# Altium integrated library Diodes$.IntLib: 17 symbols
Pins are listed as number, name and electrical type; pins without a type are passive.

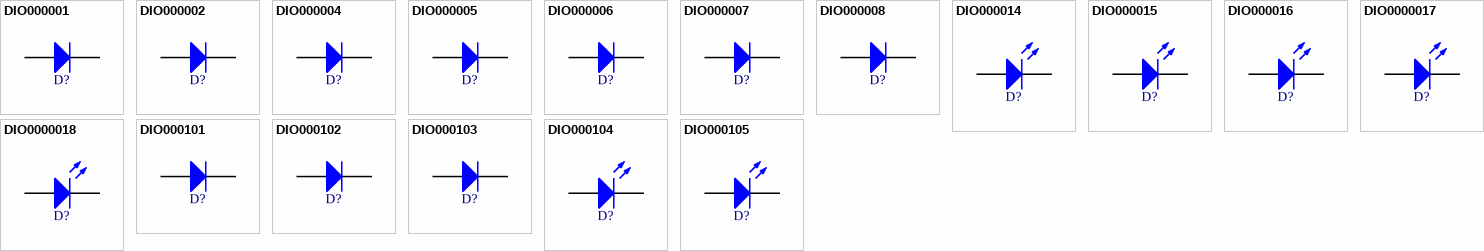
[diagram p0: symbols DIO000001 to DIO000105]

## DIO000001
designator D?, comment SR304  (value not drawn)
Schottky Diode 3A 40V TH; Manufactuer: TAIWAN SEMICONDUCTOR; UoA Stock#: DIO000001; Assembly Method: Through hole; Voltage/Current: 3A-40V; Item Type: Item; Path: ece/ts/Lists/Stock Inventory; Value: SR304; Size/Package: DO201(Axial); Manufacturer-PN: SR304; Datasheet Link: http://share.engineering.auckland.ac.nz/ece/ts/Student%20Documents/SR304.pdf; Supplier1: Element14; Supplier1-PN: 7278403; Category: Diode; Status: Active
footprint ECE-DIO18.84-9.6x5.6TH
pins: 1 A, 2 K

## DIO000002
designator D?, comment 1N4001  (value not drawn)
General Purpose Rectifier 1A 50V TH; Manufactuer: MULTICOMP; UoA Stock#: DIO000002; Assembly Method: Through hole; Voltage/Current: 1A-50V; Item Type: Item; Path: ece/ts/Lists/Stock Inventory; Value: 1N4001; Size/Package: Axial; Manufacturer-PN: 1N4001; Datasheet Link: http://share.engineering.auckland.ac.nz/ece/ts/Student%20Documents/1N4001_diode.pdf; Supplier1: Element14; Supplier1-PN: 9206663; Category: Diode; Status: Active
footprint ECE-DIO10.46-5.3x2.8TH
pins: 1 A, 2 K

## DIO000004
designator D?, comment 1N4007  (value not drawn)
General Purpose Rectifier 1A 1kV TH; Manufactuer: FAIRCHILD SEMICONDUCTOR; UoA Stock#: DIO000004; Assembly Method: Through hole; Voltage/Current: 1A-1kV; Item Type: Item; Path: ece/ts/Lists/Stock Inventory; Value: 1N4007; Size/Package: Axial; Manufacturer-PN: 1N4007; Datasheet Link: http://share.engineering.auckland.ac.nz/ece/ts/Student%20Documents/1N4007_diode.pdf; Supplier1: Element14; Supplier1-PN: 1467514; Category: Diode; Status: Active
footprint ECE-DIO10.46-5.3x2.8TH
pins: 1 A, 2 K

## DIO000005
designator D?, comment 1N4148  (value not drawn)
Small Signal Diode 2A 100V TH; Manufactuer: VISHAY SEMICONDUCTOR; UoA Stock#: DIO000005; Assembly Method: Through hole; Voltage/Current: 2A-100V; Item Type: Item; Path: ece/ts/Lists/Stock Inventory; Value: 1N4148; Size/Package: Axial; Manufacturer-PN: 1N4148; Datasheet Link: http://share.engineering.auckland.ac.nz/ece/ts/Student%20Documents/1N4148_diode.pdf; Supplier1: Element14; Supplier1-PN: 1612346; Category: Diode; Status: Active
footprint ECE-DIO10.46-5.3x2.8TH
pins: 1 A, 2 K

## DIO000006
designator D?, comment BAT85  (value not drawn)
Schottky Small Signal Diode 200mA 30V TH; Manufactuer: NXP; UoA Stock#: DIO000006; Assembly Method: Through hole; Voltage/Current: 200mA-30V; Item Type: Item; Path: ece/ts/Lists/Stock Inventory; Value: BAT85; Size/Package: Axial; Manufacturer-PN: BAT85; Datasheet Link: http://share.engineering.auckland.ac.nz/ece/ts/Student%20Documents/BAT85_diode.pdf; Supplier1: Element14; Supplier1-PN: 1097299; Category: Diode; Status: Active
footprint ECE-DIO10.46-5.3x2.8TH
pins: 1 A, 2 K

## DIO000007
designator D?, comment BYV26C  (value not drawn)
Ultra Fast Avalanche Diode 1A 600V TH; Manufactuer: VISHAY; Manufacturer-PN: BYV26C-TAP; UoA Stock#: DIO000007; Assembly Method: Through hole; Voltage/Current: 1A-600V; Item Type: Item; Path: ece/ts/Lists/Stock Inventory; Value: BYV26C; Size/Package: Axial; Datasheet Link: http://share.engineering.auckland.ac.nz/ece/ts/Student%20Documents/BYV26C_diode.pdf; Supplier1: Active Components; Supplier1-PN: UO83863; Category: Diode; Status: Active
footprint ECE-DIO18.84-9.6x5.6TH
pins: 1 A, 2 K

## DIO000008
designator D?, comment BYV28-200  (value not drawn)
Ultra Fast Avalance Diode 3.5A 200V TH; Manufactuer: VISHAY; Manufacturer-PN: BYV28-200-TAP; UoA Stock#: DIO000008; Assembly Method: Through hole; Voltage/Current: 3.5A-200V; Item Type: Item; Path: ece/ts/Lists/Stock Inventory; Value: BYV28-200; Size/Package: Axial; Datasheet Link: http://share.engineering.auckland.ac.nz/ece/ts/Student%20Documents/BYV28_diode.pdf; Supplier1: RS Components; Supplier1-PN: 543-9835; Category: Diode; Status: Active
footprint ECE-DIO18.84-9.6x5.6TH
pins: 1 A, 2 K

## DIO000014
designator D?, comment 703-0097  (value not drawn)
LED 5MM GREEN 150MCD TH; Manufactuer: MULTICOMP; UoA Stock#: DIO000014; Assembly Method: Through hole; Voltage/Current: 20mA/ 150mCD; Item Type: Item; Path: ece/ts/Lists/Stock Inventory; Value: 703-0097; Size/Package: Radial 5mm; Manufacturer-PN: 703-0097; Datasheet Link: http://share.engineering.auckland.ac.nz/ece/ts/Student%20Documents/LED-thruhole.pdf; Supplier1: Element14; Supplier1-PN: 2112108; Component Type: NA; Category: Diode; Status: Active
footprint ECE-LEDTH
pins: 1 A, 2 K

## DIO000015
designator D?, comment 703-0100  (value not drawn)
LED 5MM RED 400MCD TH; Manufactuer: MULTICOMP; UoA Stock#: DIO000015; Assembly Method: Through hole; Voltage/Current: 20mA/ 4000mCD; Item Type: Item; Path: ece/ts/Lists/Stock Inventory; Value: 703-0100; Size/Package: Radial 5mm; Manufacturer-PN: 703-0100; Datasheet Link: http://share.engineering.auckland.ac.nz/ece/ts/Student%20Documents/LED-thruhole-Red.pdf; Supplier1: Element14; Supplier1-PN: 2112111; Component Type: NA; Category: Diode; Status: Active
footprint ECE-LEDTH
pins: 1 A, 2 K

## DIO000016
designator D?, comment 703-0099  (value not drawn)
LED 5MM ORANGE 150MCD TH; Manufactuer: MULTICOMP; UoA Stock#: DIO000016; Value: 703-0100; Assembly Method: Through hole; Voltage/Current: 20mA/ 150mCD; Item Type: Item; Path: ece/ts/Lists/Stock Inventory; Size/Package: Radial 5mm; Manufacturer-PN: 703-0099; Datasheet Link: http://share.engineering.auckland.ac.nz/ece/ts/Student%20Documents/LED-thruhole-yellow.pdf; Supplier1: Element14; Supplier1-PN: 2112110; Component Type: NA; Category: Diode; Status: Active
footprint ECE-LEDTH
pins: 1 A, 2 K

## DIO0000017
designator D?, comment K501056  (value not drawn)
LED 5MM GREEN WC; UoA Stock#: DIO0000017; Assembly Method: Through hole; Item Type: Item; Path: ece/ts/Lists/Stock Inventory; Value: K501056; Size/Package: Radial 5mm; Supplier1: Active Components; Supplier1-PN: K501056; Component Type: NA; Category: Diode; Status: Active
footprint ECE-LEDTH
pins: 1 A, 2 K

## DIO0000018
designator D?, comment K501064  (value not drawn)
LED 5MM YELLOW WC; UoA Stock#: DIO0000018; Assembly Method: Through hole; Item Type: Item; Path: ece/ts/Lists/Stock Inventory; Value: K501064; Size/Package: Radial 5mm; Supplier1: Active Components; Supplier1-PN: K501064; Component Type: NA; Category: Diode; Status: Active
footprint ECE-LEDTH
pins: 1 A, 2 K

## DIO000101
designator D?, comment ES1  (value not drawn)
DIODE FAST REC 500V 1A SM; Manufactuer: Fairchild Semi; Manufacturer-PN: ES1H; UoA Stock#: DIO000101; Assembly Method: Surface Mount; Voltage/Current: 1A 500V; Item Type: Item; Path: ece/ts/Lists/Stock Inventory; Value: ES1; Size/Package: DO-214; Datasheet Link: http://share.engineering.auckland.ac.nz/ece/ts/Student%20Documents/ES1F.pdf; Supplier1: Digikey; Supplier1-PN: ES1HCT-ND; Component Type: D0214-ES1; Category: Diode; Status: Active
footprint ECE-DO214ACSM
pins: 1 A, 2 K

## DIO000102
designator D?, comment CGRA4007-G  (value not drawn)
Diode Rectifier 1N4007 SM; Manufactuer: Comchip Technology; UoA Stock#: DIO000102; Assembly Method: Surface Mount; Voltage/Current: 1A 1KV; Item Type: Item; Path: ece/ts/Lists/Stock Inventory; Value: CGRA4007-G; Size/Package: DO-214; Manufacturer-PN: CGRA4007-G; Datasheet Link: http://share.engineering.auckland.ac.nz/ece/ts/Student%20Documents/Diode-CGRA4001-G.pdf; Supplier1: Digikey; Supplier1-PN: 641-1018-2-ND; Component Type: DO214-4007; Category: Diode; Status: Active
footprint ECE-DO214ACSM
pins: 1 A, 2 K

## DIO000103
designator D?, comment 1N4148W-7-F  (value not drawn)
DIODE GEN PURPOSE 300mA SM; Manufactuer: Diodes Incorporated; UoA Stock#: DIO000103; Assembly Method: Surface Mount; Voltage/Current: 300mA 100V; Item Type: Item; Path: ece/ts/Lists/Stock Inventory; Value: 1N4148W-7-F; Size/Package: SOD123; Manufacturer-PN: 1N4148W-7-F; Datasheet Link: http://share.engineering.auckland.ac.nz/ece/ts/Student%20Documents/Diode-4148SM.pdf; Supplier1: Digikey; Supplier1-PN: 1N4148W-FDITR-ND; Component Type: SOD123-4148; Category: Diode; Status: Active
footprint ECE-DIO-SOD123SM
pins: 1 A, 2 K

## DIO000104
designator D?, comment LTST-C170KGKT  (value not drawn)
LED GREEN CLEAR 0805 SM; Manufactuer: Lite-On Inc; UoA Stock#: DIO000104; Assembly Method: Surface Mount; Voltage/Current: 20mA; Item Type: Item; Path: ece/ts/Lists/Stock Inventory; Value: LTST-C170KGKT; Size/Package: 0805 (2012 Metric); Manufacturer-PN: LTST-C170KGKT; Datasheet Link: http://share.engineering.auckland.ac.nz/ece/ts/Student%20Documents/LED-S_110_LTST-C170KGKT.pdf; Supplier1: Digikey; Supplier1-PN: 160-1414-6-ND; Component Type: LED-0805-GREEN; Category: Diode; Status: Active
footprint ECE-LED2012-0805SM
pins: 1 A, 2 K

## DIO000105
designator D?, comment LTST-C170KAKT  (value not drawn)
LED RED ORANGE CLEAR 0805 SMD; Manufactuer: Lite-On Inc; UoA Stock#: DIO000105; Assembly Method: Surface Mount; Voltage/Current: 20mA; Item Type: Item; Path: ece/ts/Lists/Stock Inventory; Value: LTST-C170KAKT; Size/Package: 0805 (2012 Metric); Manufacturer-PN: LTST-C170KAKT; Datasheet Link: http://share.engineering.auckland.ac.nz/ece/ts/Student%20Documents/LED-S_110_LTST-C170KAKT.pdf; Supplier1: Digikey; Supplier1-PN: 160-1412-6-ND; Component Type: LED-0805-RED; Category: Diode; Status: Active
footprint ECE-LED2012-0805SM
pins: 1 A, 2 K